# Altium footprint library LPEDT_Parts.PcbLib: 39 footprints (part 2 of 3)
Each footprint in its own frame and in the unit in brackets; x right, y up, seen from the top. Pads: shape width x height; smd on the part's side, far side on the other; paste and mask are expansions set on the pad; w line width, h text height; cw(c..) or ccw(c..) is an arc to the next point about the centre after c.
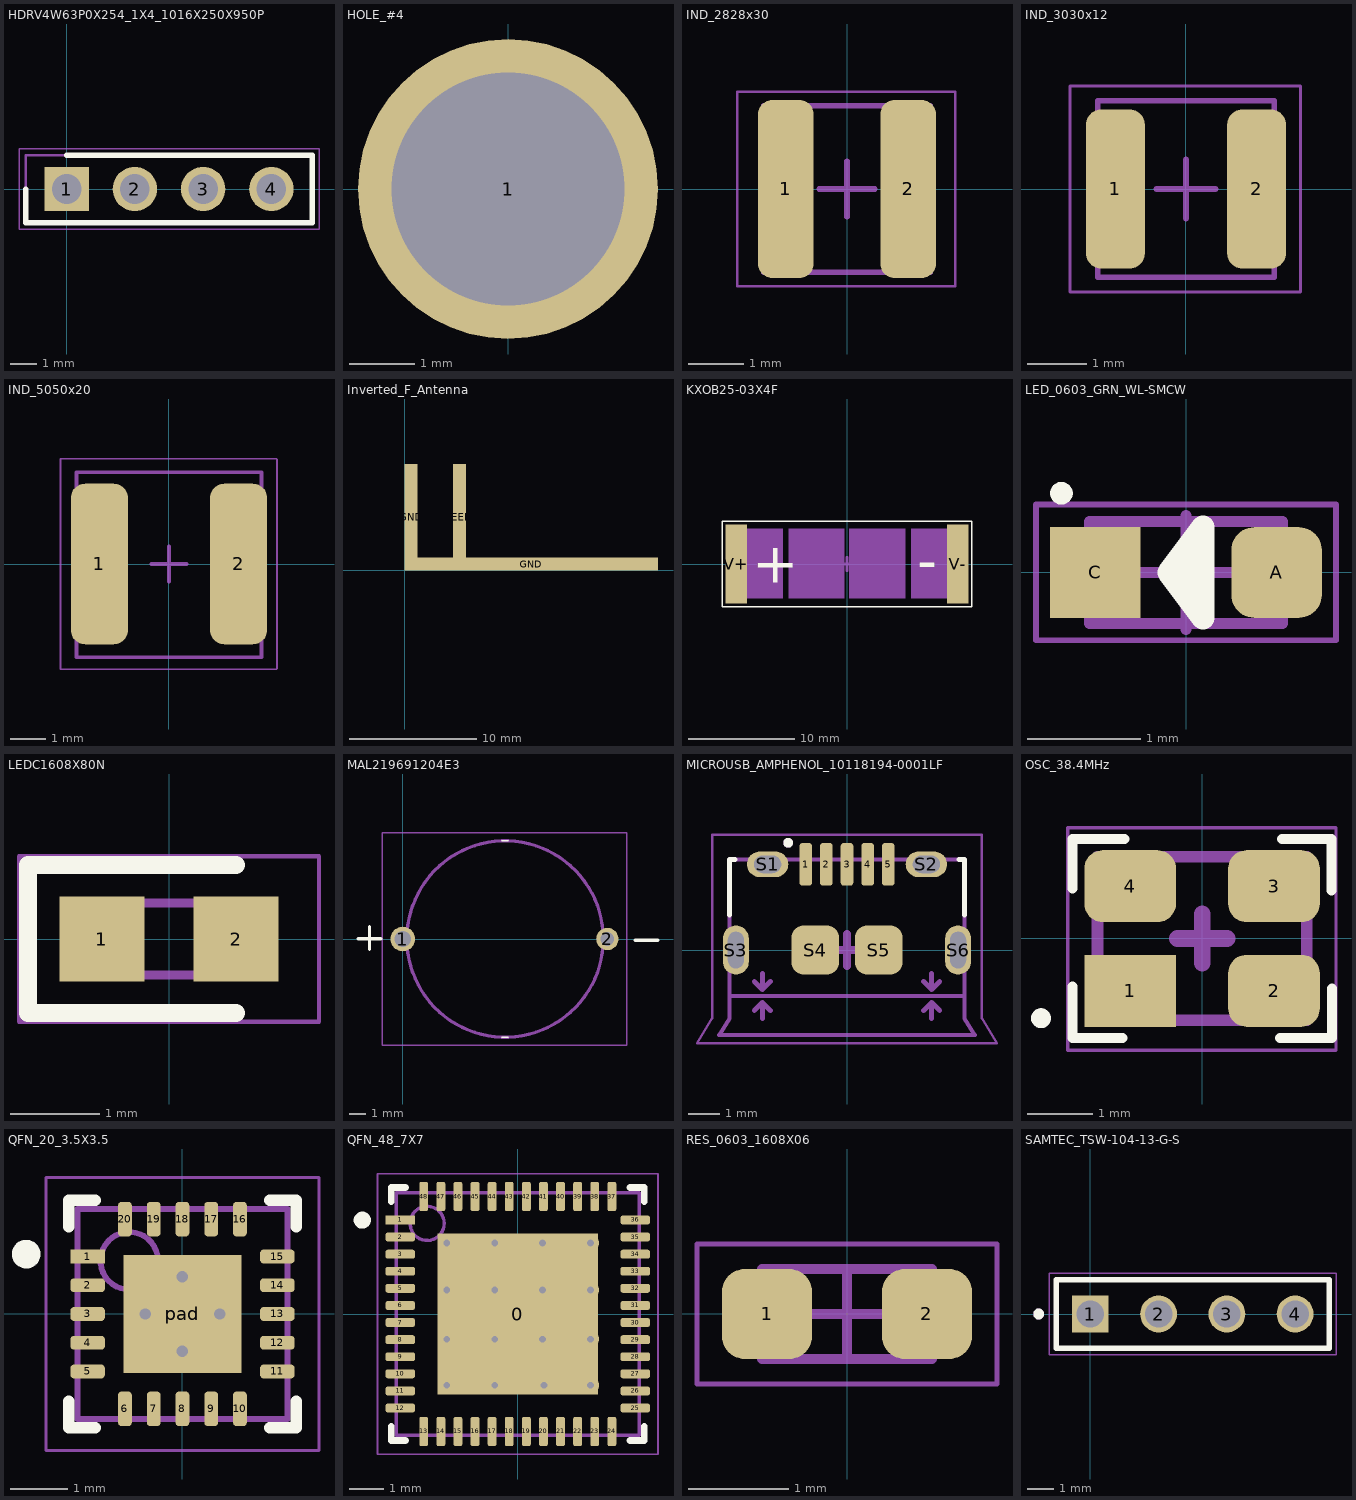
[diagram p1: the footprints below, top view; thin cyan lines are the x and y axes]

## HDRV4W63P0X254_1X4_1016X250X950P [mm]
pads (4):
  rect 1.65x1.65 / inner round 1.65 / far side rect 1.65x1.65 hole 1.1: 1(0,0)
  round 1.65 hole 1.1: 2(2.54,0) 3(5.08,0) 4(7.62,0)
Top Overlay:
  lines w0.2: -1.52,0 -1.52,-1.25 9.14,-1.25 9.14,1.25 0,1.25
Mechanical 15:
  lines w0.1: -1.52,-1.25 9.14,-1.25 9.14,1.25 -1.52,1.25 -1.52,-1.25
Mechanical 20:
  lines w0.05: -1.77,-1.5 9.39,-1.5 9.39,1.5 -1.77,1.5 -1.77,-1.5
3D body "826629-4.stp": height 5.8, standoff -4.65, extent -10,-3.376 10,3.376

## HOLE_#4 [mil]
pads (1):
  round 180 hole 140: 1(0,0)

## IND_2828x30 [mm] "Precision Wire Wound Inductor, 2-Leads, Body 2.80x2.80mm, IPC Medium Density"
height 3
pads (2):
  rrect50% 1x3.2 smd: 1(-1.1,0) 2(1.1,0)
Mechanical 13:
  lines w0.1: -1.5,-1.5 1.5,-1.5 1.5,1.5 -1.5,1.5 -1.5,-1.5
  text ".Designator" at -1.17,-0.845 h0.9
Mechanical 15:
  lines w0.05: -1.975,-1.75 -1.975,-0.875 -1.975,-0.437 -1.975,0.438 -1.975,0.875 -1.975,1.75 1.95,1.75 1.95,1.353 1.95,0.457 1.95,-0.75 1.95,-1.75 -1.975,-1.75
  lines w0.1: -0.5,0 0.5,0 ; 0,-0.5 0,0.5
3D body "744025001_Download_STP_WE-TPC-2828_rev1.stp": height 2.8, standoff 0, extent -1.4,-1.4 1.4,1.4

## IND_3030x12 [mm] "Precision Wire Wound Inductor, 2-Leads, Body 3.0x3.0mm, IPC Medium Density"
height 1.2
pads (2):
  rrect50% 1x2.7 smd: 1(-1.2,0) 2(1.2,0)
Mechanical 13:
  lines w0.1: -1.5,-1.5 1.5,-1.5 1.5,1.5 -1.5,1.5 -1.5,-1.5
  text ".Designator" at -1.17,-0.845 h0.9
Mechanical 15:
  lines w0.05: -1.975,-1.75 -1.975,-0.875 -1.975,-0.437 -1.975,0.438 -1.975,0.875 -1.975,1.75 1.95,1.75 1.95,1.353 1.95,0.457 1.95,-0.75 1.95,-1.75 -1.975,-1.75
  lines w0.1: -0.5,0 0.5,0 ; 0,-0.5 0,0.5
3D body "744025001_Download_STP_WE-TPC-2828_rev1.stp": height 2.8, standoff 0, extent -1.4,-1.4 1.4,1.4

## IND_5050x20 [mm] "Precision Wire Wound Inductor, 2-Leads, Body 5.0x5.0mm, IPC Medium Density"
height 3
pads (2):
  rrect50% 1.6x4.5 smd mask+0.05: 1(-1.95,0) 2(1.95,0)
Mechanical 13:
  lines w0.1: -2.591,-2.616 -2.591,2.565 2.591,2.565 2.591,-2.616 -2.591,-2.616
  text ".Designator" at -1.17,-0.845 h0.9
Mechanical 15:
  lines w0.05: 3.017,-2.946 -3.042,-2.946 -3.042,-0.26 -3.042,0.615 -3.042,2.946 1.95,2.946 3.017,2.946 ; 3.023,-2.927 3.023,2.927
  lines w0.1: -0.5,0 0.5,0 ; 0,-0.5 0,0.5
3D body "74404052010_Download_STP_WE-LQS-5020_rev1.stp": height 1.95, standoff -0.05, extent -2.5,-2.513 2.5,2.487

## Inverted_F_Antenna [mil]
pads (3):
  rect 40x328.3 smd paste-393.7 mask+1.97: FEED(169.02,164.5)
  rect 40x328.31 smd paste-393.7 mask+1.97: GND(20,164.5)
  rect 782x39 smd paste-393.7 mask+1.97: GND(390.98,20.01)

## KXOB25-03X4F [mm] "SOLAR CELL GEN3 2.76V 30MW"
height 2.1
pads (2):
  rect 2x7.4 smd: V+(-10.4,0) V-(10.4,0)
Top Overlay:
  lines w0.127: -11.75,-4 -11.75,4 11.75,4 11.75,-4 -11.75,-4
  text "-" at 6.604,-1.524 h3.81
  text "+" at -8.89,-1.778 h3.81
Mechanical 1:
  rectangle: 0.209,-3.232 5.489,3.358
  rectangle: -5.519,-3.232 -0.239,3.358
  rectangle: -11.303,-3.232 -6.023,3.358
  rectangle: 6.007,-3.232 11.287,3.358
Mechanical 15:
  lines w0.254: -0.635,0 0.635,0 ; 0,-0.635 0,0.635

## LED_0603_GRN_WL-SMCW [mm] "SODFL, 2-Leads, Body 0.80x1.80mm, IPC Medium Density"
height 0.8
pads (2):
  rrect50% 0.8x0.8 smd: A(0.8,0)
  rect 0.8x0.8 smd: C(-0.8,0)
Top Overlay:
  circle w0.1: c-1.1,0.7 r0.05
  lines w0.2: -0.15,0 0.05,0
  lines w0.205: -0.15,0 0.15,0.4 0.15,-0.4 -0.15,0
Mechanical 13:
  lines w0.1: -0.85,-0.45 0.85,-0.45 0.85,0.45 -0.85,0.45 -0.85,-0.45
  text ".Designator" at -0.723,-0.254 h0.5
Mechanical 15:
  lines w0.05: -1.325,-0.6 1.325,-0.6 1.325,0.6 -1.325,0.6 -1.325,-0.6
  lines w0.1: -0.5,0 0.5,0 ; 0,-0.5 0,0.5
3D body "LED_0603_WURTH_WL-SMCW_base.step": height 0.65, standoff 0.01, extent -0.8,-0.4 0.8,0.4
3D body "LED_0603_WURTH_WL-SMCW_lens.step": height 0.71, standoff 0.31, extent -0.55,-0.4 0.55,0.4

## LEDC1608X80N [mm]
pads (2):
  rect 0.95x0.95 smd: 1(-0.75,0) 2(0.75,0)
Top Overlay:
  lines w0.2: 0.75,-0.825 -1.575,-0.825 -1.575,0.825 0.75,0.825
Mechanical 15:
  lines w0.1: -0.8,0.133 -0.533,0.4 ; -0.8,-0.4 0.8,-0.4 0.8,0.4 -0.8,0.4 -0.8,-0.4
Mechanical 20:
  lines w0.05: -1.675,-0.925 1.675,-0.925 1.675,0.925 -1.675,0.925 -1.675,-0.925
3D body "WL-SMCW SMT LED WURTH ELEKTRONIK 0603.step": height 0.7, standoff 0, extent -0.8,-0.325 0.8,0.375

## MAL219691204E3 [mm]
pads (2):
  round 1.5 hole 1: 1(0,0)
  round 1.365 hole 0.84: 2(12.5,0)
Top Overlay:
  lines w0.1: 6.05,-6 6.45,-6 ; 6.05,6 6.45,6
  lines w0.203: -2.736,0.015 -1.339,0.015 ; -2.032,-0.635 -2.032,0.762 ; 14.199,-0.076 15.596,-0.076
Mechanical 15:
  lines w0.2: 0.25,0 cw(c6.25,0) 12.25,0 cw(c6.25,0) 0.25,0
Mechanical 20:
  lines w0.1: -1.25,-6.5 -1.25,6.5 13.682,6.5 13.682,-6.5 -1.25,-6.5
3D body "MAL219691204E3.stp": height 5.8, standoff -4.65, extent -10,-3.376 10,3.376

## MICROUSB_AMPHENOL_10118194-0001LF [mm]
pads (11):
  rrect50% 0.4x1.35 smd: 1(-1.3,2.7) 2(-0.65,2.7) 3(0,2.7) 4(0.65,2.7) 5(1.3,2.7)
  oval 1.3x0.813 hole 0.55 slot 0.85 at 0 deg: S1(-2.5,2.7) S2(2.5,2.7)
  oval 0.813x1.55 hole 0.5 slot 1.15 at 90 deg: S3(-3.5,0) S6(3.5,0)
  rrect50% 1.5x1.55 smd: S4(-1,0) S5(1,0)
Top Overlay:
  circle w0.152: c-1.854,3.378 r0.076
  lines w0.152: -3.7,1.095 -3.7,2.85 -3.52,2.85 ; 3.52,2.85 3.7,2.85 3.7,1.095
Top Paste:
  lines w0: -3.5,0.6 -3.5,0.77 ; 3.5,-0.77 3.5,-0.6
Mechanical 13:
  circle w0.152: c-1.854,3.378 r0.076
  lines w0.127: -3.7,-1.45 3.7,-1.45 ; -3.7,-1.45 -3.7,-2.15 -4.025,-2.68 4.025,-2.68 3.7,-2.15 3.7,-1.45 ; -3.7,-1.45 -3.7,2.85 3.7,2.85 3.7,-1.45
  lines w0.152: -2.921,-1.905 -2.667,-1.651 ; -2.921,-0.991 -2.667,-1.245 ; -2.667,-2.159 -2.667,-1.651 ; -2.667,-0.737 -2.667,-1.245 ; -2.413,-1.905 -2.667,-1.651 ; -2.413,-0.991 -2.667,-1.245 ; 2.413,-1.905 2.667,-1.651 ; 2.413,-0.991 2.667,-1.245 ; 2.667,-2.159 2.667,-1.651 ; 2.667,-0.737 2.667,-1.245 ; 2.921,-1.905 2.667,-1.651 ; 2.921,-0.991 2.667,-1.245
  text "PCB END" at -1.651,-2.159 h0.5
  text ".Designator" at -3.429,1.143 h0.69
Mechanical 15:
  lines w0.076: -4.725,-2.93 4.725,-2.93 4.25,-2.15 4.25,3.625 -4.25,3.625 -4.25,-2.15 -4.725,-2.93
  lines w0.254: -0.508,0 0.508,0 ; 0,-0.508 0,0.508
3D body "10118194c.stp": height 2.75, standoff -0.53, extent -4.05,-2.692 4,2.888

## OSC_38.4MHz [mm]
height 0.8
pads (4):
  rect 1.4x1.1 smd: 1(-1.1,-0.8)
  rrect50% 1.4x1.1 smd: 2(1.1,-0.8) 3(1.1,0.8) 4(-1.1,0.8)
Top Overlay:
  circle w0.152: c-2.464,-1.219 r0.076
  lines w0.152: -1.981,-0.731 -1.981,-1.524 -1.219,-1.524 ; -1.981,0.762 -1.981,1.524 -1.188,1.524 ; 1.194,-1.524 1.987,-1.524 1.987,-0.762 ; 1.219,1.524 1.981,1.524 1.981,0.731
Mechanical 13:
  circle w0.2: c-1.265,-0.865 r0.1
  lines w0.18: -1.6,-1.25 1.6,-1.25 1.6,1.25 -1.6,1.25 -1.6,-1.25
  text ".Designator" at -1.324,-0.483 h1
Mechanical 15:
  lines w0.05: -2.056,-1.708 -2.056,1.692 2.048,1.692 2.048,-1.708 -2.056,-1.708
  lines w0.254: -0.381,0 0.381,0 ; 0,-0.381 0,0.381

## QFN_20_3.5X3.5 [mm] "IC ENERGY HARV CTRLR BATT 20VQFN"
height 1
pads (21):
  rect 0.6x0.24 smd mask+0.05: 1(-1.65,1)
  rrect50% 0.6x0.24 smd mask+0.05: 2(-1.65,0.5) 3(-1.65,0) 4(-1.65,-0.5) 5(-1.65,-1) 11(1.65,-1) 12(1.65,-0.5) 13(1.65,0) 14(1.65,0.5) 15(1.65,1)
  rrect50% 0.24x0.6 smd mask+0.05: 6(-1,-1.65) 7(-0.5,-1.65) 8(0,-1.65) 9(0.5,-1.65) 10(1,-1.65) 16(1,1.65) 17(0.5,1.65) 18(0,1.65) 19(-0.5,1.65) 20(-1,1.65)
  rect 2.05x2.05 smd paste-10 mask+0.05: pad(0,0)
via 0.65,0 diameter 0.5 hole 0.2
via -0.65,0 diameter 0.5 hole 0.2
via 0,-0.65 diameter 0.5 hole 0.2
via 0,0.65 diameter 0.5 hole 0.2
Top Overlay:
  circle w0.25: c-2.718,1.041 r0.125
  lines w0.2: -1.975,-1.52 -1.975,-1.975 -1.52,-1.975 ; -1.975,1.52 -1.975,1.975 -1.52,1.975 ; 1.52,-1.975 1.975,-1.975 1.975,-1.52 ; 1.52,1.975 1.975,1.975 1.975,1.52
Top Paste:
  rectangle: 0.12,-1.025 1.025,-0.12
  rectangle: -1.025,-1.025 -0.105,-0.12
  rectangle: -1.025,0.105 -0.105,1.025
  rectangle: 0.12,0.105 1.025,1.025
Mechanical 13:
  circle w0.1: c-0.925,0.925 r0.5
  lines w0.1: -1.825,-1.825 -1.825,1.825 1.825,1.825 1.825,-1.825 -1.825,-1.825
  text ".Designator" at -1.575,-1.471 h1.5
Mechanical 15:
  lines w0.05: -2.375,-2.375 -2.375,2.375 2.375,2.375 2.375,-2.375 -2.375,-2.375
  lines w0.1: -0.5,0 0.5,0 ; 0,-0.5 0,0.5
3D body "QFN_20_3.5X3.5.step": height 1, standoff 0, extent -1.905,-1.905 1.905,1.905

## QFN_48_7X7 [mm] "BLUE GECKO QFN48 2.4 GHZ 512KB 6"
height 0.9
pads (49):
  rect 4.7x4.7 smd paste-10 mask+0.05: 0(0,0)
  rect 0.86x0.26 smd mask+0.05: 1(-3.435,2.75)
  rrect50% 0.86x0.26 smd mask+0.05: 2(-3.435,2.25) 3(-3.435,1.75) 4(-3.435,1.25) 5(-3.435,0.75) 6(-3.435,0.25) 7(-3.435,-0.25) 8(-3.435,-0.75) 9(-3.435,-1.25) 10(-3.435,-1.75) 11(-3.435,-2.25) 12(-3.435,-2.75) 25(3.435,-2.75) 26(3.435,-2.25) 27(3.435,-1.75) 28(3.435,-1.25) 29(3.435,-0.75) 30(3.435,-0.25) 31(3.435,0.25) 32(3.435,0.75) 33(3.435,1.25) 34(3.435,1.75) 35(3.435,2.25) 36(3.435,2.75)
  rrect50% 0.26x0.86 smd mask+0.05: 13(-2.75,-3.435) 14(-2.25,-3.435) 15(-1.75,-3.435) 16(-1.25,-3.435) 17(-0.75,-3.435) 18(-0.25,-3.435) 19(0.25,-3.435) 20(0.75,-3.435) 21(1.25,-3.435) 22(1.75,-3.435) 23(2.25,-3.435) 24(2.75,-3.435) 37(2.75,3.435) 38(2.25,3.435) 39(1.75,3.435) 40(1.25,3.435) 41(0.75,3.435) 42(0.25,3.435) 43(-0.25,3.435) 44(-0.75,3.435) 45(-1.25,3.435) 46(-1.75,3.435) 47(-2.25,3.435) 48(-2.75,3.435)
via 0.762,-2.083 diameter 0.5 hole 0.2
via -2.075,2.075 diameter 0.5 hole 0.2
via -2.075,-0.737 diameter 0.5 hole 0.2
via 2.125,2.075 diameter 0.5 hole 0.2
via 0.725,2.075 diameter 0.5 hole 0.2
via -0.675,2.075 diameter 0.5 hole 0.2
via 2.125,0.7 diameter 0.5 hole 0.2
via 2.125,-0.737 diameter 0.5 hole 0.2
via 2.125,-2.083 diameter 0.5 hole 0.2
via -0.675,-2.083 diameter 0.5 hole 0.2
via -2.075,-2.083 diameter 0.5 hole 0.2
via -2.075,0.7 diameter 0.5 hole 0.2
via -0.675,0.7 diameter 0.5 hole 0.2
via -0.675,-0.737 diameter 0.5 hole 0.2
via 0.725,-0.737 diameter 0.5 hole 0.2
via 0.725,0.7 diameter 0.5 hole 0.2
Top Overlay:
  circle w0.25: c-4.547,2.743 r0.125
  lines w0.2: -3.7,-3.28 -3.7,-3.7 -3.28,-3.7 ; -3.7,3.28 -3.7,3.7 -3.28,3.7 ; 3.28,-3.7 3.7,-3.7 3.7,-3.28 ; 3.28,3.7 3.7,3.7 3.7,3.28
Top Paste:
  rectangle: -1.96,-1.891 -0.843,-0.951
  rectangle: -0.56,0.909 0.61,1.857
  rectangle: -1.96,0.912 -0.79,1.861
  rectangle: -1.96,-0.491 -0.79,0.457
  rectangle: 0.84,-1.891 1.957,-0.951
  rectangle: -0.56,-1.891 0.557,-0.951
  rectangle: 0.84,0.909 2.01,1.857
  rectangle: 0.84,-0.491 2.01,0.457
  rectangle: -0.56,-0.491 0.61,0.457
Mechanical 13:
  circle w0.1: c-2.65,2.65 r0.5
  lines w0.1: -3.55,-3.55 -3.55,3.55 3.55,3.55 3.55,-3.55 -3.55,-3.55
  text ".Designator" at -3.429,-2.959 h2.5
Mechanical 15:
  lines w0.05: -4.1,-4.1 -4.1,4.1 4.1,4.1 4.1,-4.1 -4.1,-4.1
  lines w0.1: -0.5,0 0.5,0 ; 0,-0.5 0,0.5
3D body "QFN_48_7X7.step": height 0.9, standoff 0, extent -3.551,-3.551 3.551,3.551

## RES_0603_1608X06 [mm] "Chip Resistor, 2-Leads, Body 1.60x0.80mm, IPC Medium Density"
height 0.55
pads (2):
  rrect50% 0.9x0.9 smd: 1(-0.8,0) 2(0.8,0)
Mechanical 13:
  lines w0.1: -0.85,-0.45 0.85,-0.45 0.85,0.45 -0.85,0.45 -0.85,-0.45
  text ".Designator" at -0.635,-0.254 h0.4
Mechanical 15:
  lines w0.05: -1.5,-0.7 1.5,-0.7 1.5,0.7 -1.5,0.7 -1.5,-0.7
  lines w0.1: -0.45,0 0.45,0 ; 0,-0.45 0,0.45
3D body "0603_1608X05N.step": height 0.45, standoff 0, extent -0.775,-0.425 0.775,0.425

## SAMTEC_TSW-104-13-G-S [mm]
pads (4):
  rect 1.37x1.37 hole 1.02: 1(0,0)
  round 1.37 hole 1.02: 2(2.54,0) 3(5.08,0) 4(7.62,0)
Top Overlay:
  circle w0.2: c-1.92,0 r0.1
  lines w0.2: -1.27,-1.27 -1.27,1.27 8.89,1.27 8.89,-1.27 -1.27,-1.27
Mechanical 13:
  circle w0.2: c-1.92,0 r0.1
  lines w0.1: -1.27,-1.27 -1.27,1.27 8.89,1.27 8.89,-1.27 -1.27,-1.27
Mechanical 15:
  lines w0.05: -1.52,-1.52 -1.52,1.52 9.14,1.52 9.14,-1.52 -1.52,-1.52
3D body "TSW-104-13-G-S.stp": height 22.86, standoff -8.38, extent -1.245,-1.219 9.042,1.321